# EAGLE library part Q_HIP4081A (library MRDT-2014-All)
80V/2.5A Full Bridge FET Driver DIP20
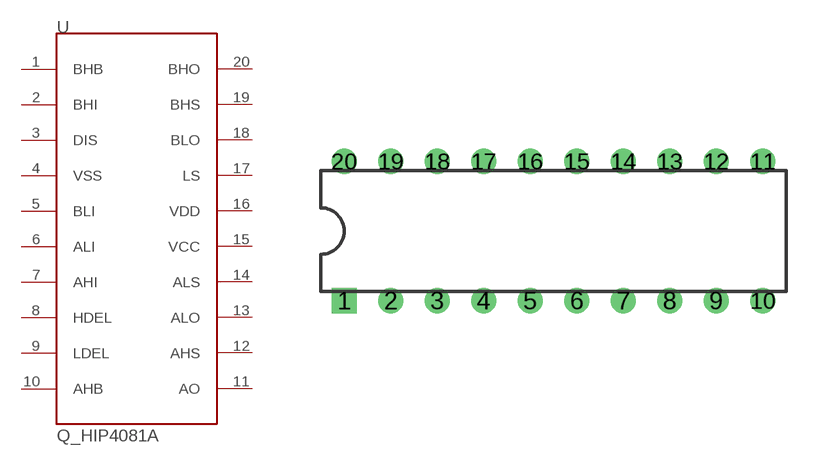
[diagram p4: symbol with the pads of DIP20; footprint DIP20]

Designator prefix -

## Q_HIP4081A  [DIP20]
1  BHB
2  BHI
3  DIS
4  VSS
5  BLI
6  ALI
7  AHI
8  HDEL
9  LDEL
10  AHB
11  AO
12  AHS
13  ALO
14  ALS
15  VCC
16  VDD
17  LS
18  BLO
19  BHS
20  BHO

## Footprint DIP20 (pad centres in mm)
drill 0.864 square: 1 -11.43,-3.81
drill 0.864: 2 -8.89,-3.81; 3 -6.35,-3.81; 4 -3.81,-3.81; 5 -1.27,-3.81; 6 1.27,-3.81; 7 3.81,-3.81; 8 6.35,-3.81; 9 8.89,-3.81; 10 11.43,-3.81; 11 11.43,3.81; 12 8.89,3.81; 13 6.35,3.81; 14 3.81,3.81; 15 1.27,3.81; 16 -1.27,3.81; 17 -3.81,3.81; 18 -6.35,3.81; 19 -8.89,3.81; 20 -11.43,3.81